# Altium footprint library PIC Library File.PcbLib: 2 footprints
Each footprint in its own frame and in the unit in brackets; x right, y up, seen from the top. Pads: shape width x height; smd on the part's side, far side on the other; paste and mask are expansions set on the pad; w line width, h text height; cw(c..) or ccw(c..) is an arc to the next point about the centre after c.
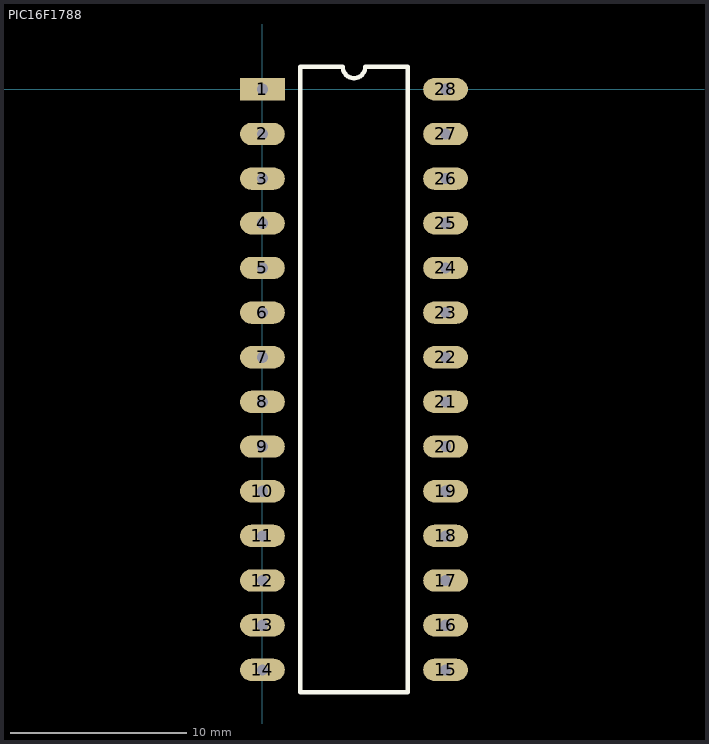
[diagram p0: the footprints below, top view; thin cyan lines are the x and y axes]

## PCBComponent_1 [mil]

## PIC16F1788 [mil]
pads (28):
  rect 100x50 hole 25: 1(0,0)
  oval 100x50 hole 25: 2(0,-100) 3(0,-200) 4(0,-300) 5(0,-400) 6(0,-500) 7(0,-600) 8(0,-700) 9(0,-800) 10(0,-900) 11(0,-1000) 12(0,-1100) 13(0,-1200) 14(0,-1300) 15(410,-1300) 16(410,-1200) 17(410,-1100) 18(410,-1000) 19(410,-900) 20(410,-800) 21(410,-700) 22(410,-600) 23(410,-500) 24(410,-400) 25(410,-300) 26(410,-200) 27(410,-100) 28(410,0)
Top Layer:
  text "PIC16F1788" at 235,-920 h60
Top Overlay:
  lines w10: 85,-1350 325,-1350 325,50 230,50 cw(c205,50) 180,50 85,50 85,-1350